# EAGLE library part TXB0102DCUR (library electronic-labs)
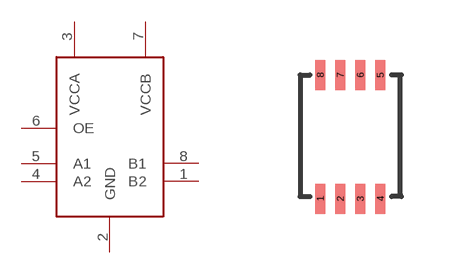
[diagram p20: symbol with the pads of VSSOP8; footprint VSSOP8]

Designator prefix U

## TXB0102DCUR  [VSSOP8]
1  B2
2  GND  pwr
3  VCCA  pwr
4  A2
5  A1
6  OE
7  VCCB  pwr
8  B1

## Footprint VSSOP8 (pad centres in mm)
smd 0.25 x 0.75: 1 -1.27,-1.83; 2 -0.77,-1.83; 3 -0.27,-1.83; 4 0.23,-1.83; 5 0.23,1.27; 6 -0.27,1.27; 7 -0.77,1.27; 8 -1.27,1.27